# Altium schematic symbol library STM32.SchLib: 9 symbols
Pins are listed as number, name and electrical type; pins without a type are passive.

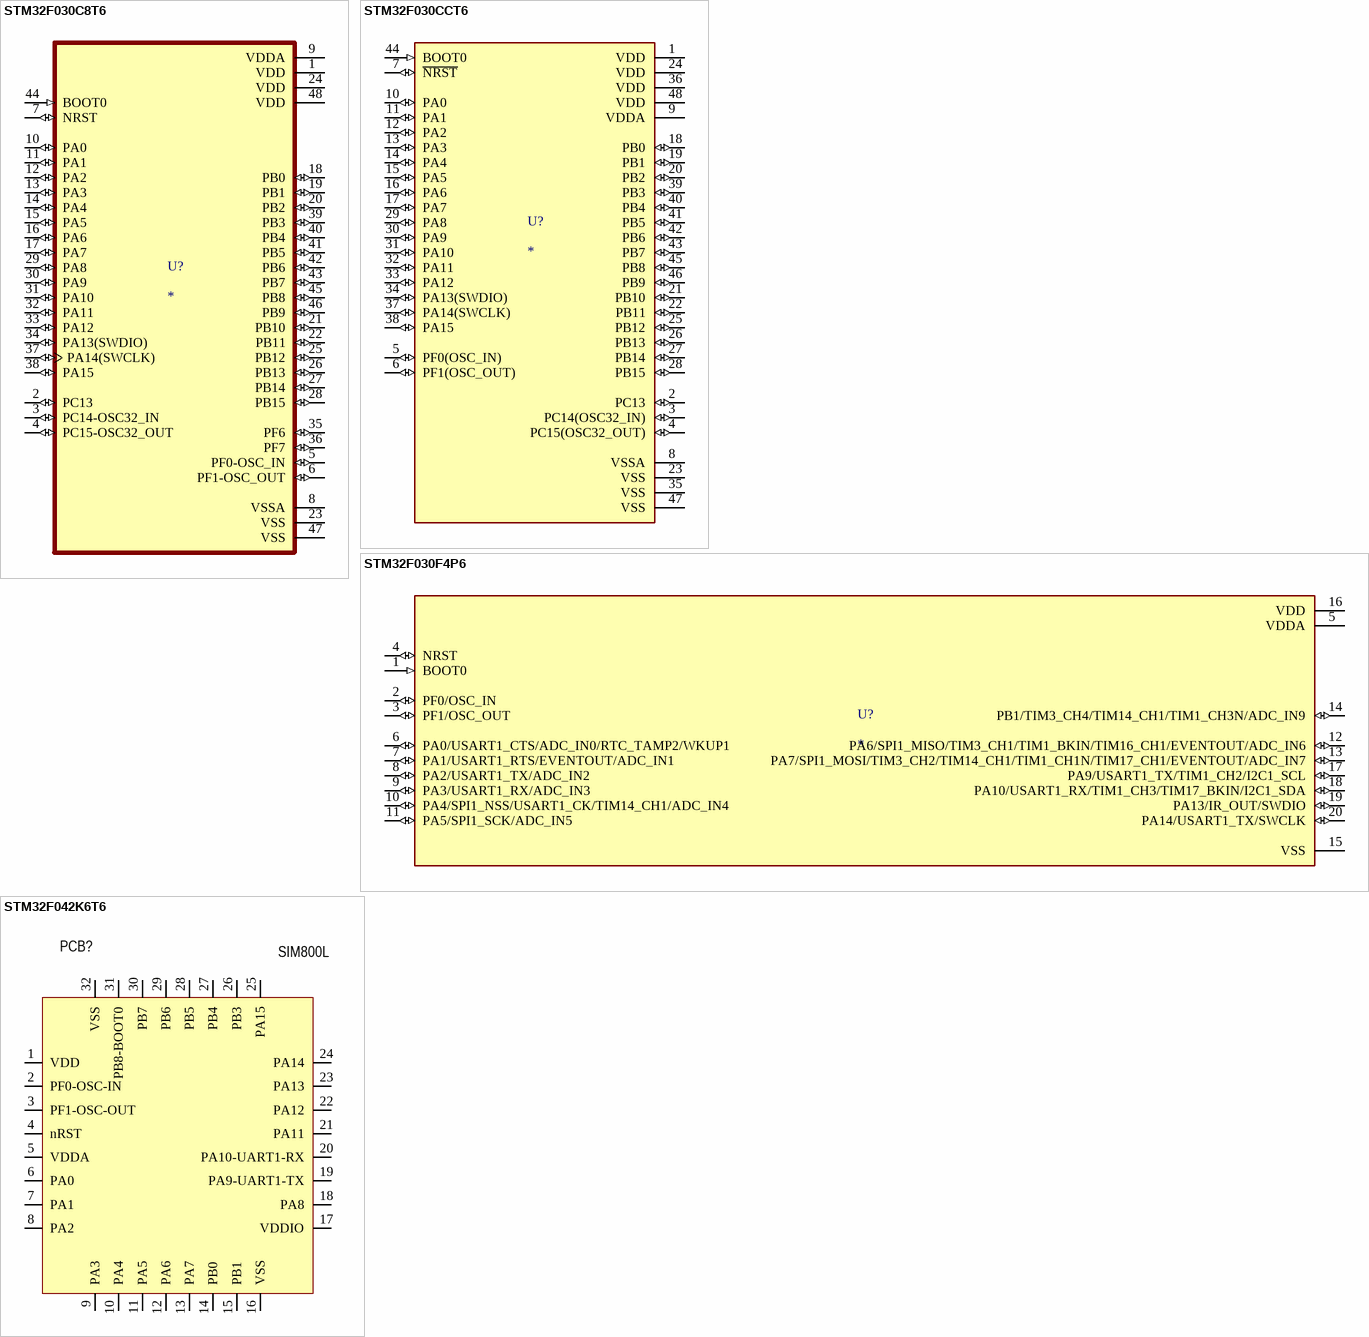
[diagram p0: symbols STM32F030C8T6 to STM32F042K6T6]

## STM32F030C8T6
designator U?
ARMÂ® CortexÂ®-M0 STM32F0 Microcontroller IC 32-Bit Single-Core 48MHz 64KB (64K x 8) FLASH 48-LQFP (7x7); MF: STMicroelectronics; MP: STM32F030C8T6; SnapEDA_Link: https://www.snapeda.com/parts/STM32F030C8T6/STMicroelectronics/view-part/?ref=snap; Package: LQFP-48 STMicroelectronics; Value: *; Check_prices: https://www.snapeda.com/parts/STM32F030C8T6/STMicroelectronics/view-part/?ref=eda
footprint QFP50P900X900X160-48N
pins: 1 VDD (power), 2 PC13 (io), 3 PC14-OSC32_IN (io), 4 PC15-OSC32_OUT (io), 5 PF0-OSC_IN (io), 6 PF1-OSC_OUT (io), 7 NRST (io), 8 VSSA (power), 9 VDDA (power), 10 PA0 (io), 11 PA1 (io), 12 PA2 (io), 13 PA3 (io), 14 PA4 (io), 15 PA5 (io), 16 PA6 (io), 17 PA7 (io), 18 PB0 (io), 19 PB1 (io), 20 PB2 (io), 21 PB10 (io), 22 PB11 (io), 23 VSS (power), 24 VDD (power), 25 PB12 (io), 26 PB13 (io), 27 PB14 (io), 28 PB15 (io), 29 PA8 (io), 30 PA9 (io), 31 PA10 (io), 32 PA11 (io), 33 PA12 (io), 34 PA13(SWDIO) (io), 35 PF6 (io), 36 PF7 (io), 37 PA14(SWCLK) (io), 38 PA15 (io), 39 PB3 (io), 40 PB4 (io), 41 PB5 (io), 42 PB6 (io), 43 PB7 (io), 44 BOOT0 (in), 45 PB8 (io), 46 PB9 (io), 47 VSS (power), 48 VDD (power)

## STM32F030CCT6
designator U?
ARMÂ® CortexÂ®-M0 STM32F0 Microcontroller IC 32-Bit Single-Core 48MHz 256KB (256K x 8) FLASH 48-LQFP (7x7); MF: STMicroelectronics; MP: STM32F030CCT6; SnapEDA_Link: https://www.snapeda.com/parts/STM32F030CCT6/STMicroelectronics/view-part/?ref=snap; Package: LQFP-48 STMicroelectronics; Value: *; Check_prices: https://www.snapeda.com/parts/STM32F030CCT6/STMicroelectronics/view-part/?ref=eda
footprint QFP50P900X900X160-48N
pins: 1 VDD (power), 2 PC13 (io), 3 PC14(OSC32_IN) (io), 4 PC15(OSC32_OUT) (io), 5 PF0(OSC_IN) (io), 6 PF1(OSC_OUT) (io), 7 ~{NRST} (io), 8 VSSA (power), 9 VDDA (power), 10 PA0 (io), 11 PA1 (io), 12 PA2 (io), 13 PA3 (io), 14 PA4 (io), 15 PA5 (io), 16 PA6 (io), 17 PA7 (io), 18 PB0 (io), 19 PB1 (io), 20 PB2 (io), 21 PB10 (io), 22 PB11 (io), 23 VSS (power), 24 VDD (power), 25 PB12 (io), 26 PB13 (io), 27 PB14 (io), 28 PB15 (io), 29 PA8 (io), 30 PA9 (io), 31 PA10 (io), 32 PA11 (io), 33 PA12 (io), 34 PA13(SWDIO) (io), 35 VSS (power), 36 VDD (power), 37 PA14(SWCLK) (io), 38 PA15 (io), 39 PB3 (io), 40 PB4 (io), 41 PB5 (io), 42 PB6 (io), 43 PB7 (io), 44 BOOT0 (in), 45 PB8 (io), 46 PB9 (io), 47 VSS (power), 48 VDD (power)

## STM32F030F4P6
designator U?
ARMÂ® CortexÂ®-M0 STM32F0 Microcontroller IC 32-Bit Single-Core 48MHz 16KB (16K x 8) FLASH; MF: STMicroelectronics; MP: STM32F030F4P6; SnapEDA_Link: https://www.snapeda.com/parts/STM32F030F4P6/STMicroelectronics/view-part/?ref=snap; Package: TSSOP-20 STMicroelectronics; Value: *; Check_prices: https://www.snapeda.com/parts/STM32F030F4P6/STMicroelectronics/view-part/?ref=eda
footprint SOP65P640X120-20N
pins: 1 BOOT0 (in), 2 PF0/OSC_IN (io), 3 PF1/OSC_OUT (io), 4 NRST (io), 5 VDDA (power), 6 PA0/USART1_CTS/ADC_IN0/RTC_TAMP2/WKUP1 (io), 7 PA1/USART1_RTS/EVENTOUT/ADC_IN1 (io), 8 PA2/USART1_TX/ADC_IN2 (io), 9 PA3/USART1_RX/ADC_IN3 (io), 10 PA4/SPI1_NSS/USART1_CK/TIM14_CH1/ADC_IN4 (io), 11 PA5/SPI1_SCK/ADC_IN5 (io), 12 PA6/SPI1_MISO/TIM3_CH1/TIM1_BKIN/TIM16_CH1/EVENTOUT/ADC_IN6 (io), 13 PA7/SPI1_MOSI/TIM3_CH2/TIM14_CH1/TIM1_CH1N/TIM17_CH1/EVENTOUT/ADC_IN7 (io), 14 PB1/TIM3_CH4/TIM14_CH1/TIM1_CH3N/ADC_IN9 (io), 15 VSS (power), 16 VDD (power), 17 PA9/USART1_TX/TIM1_CH2/I2C1_SCL (io), 18 PA10/USART1_RX/TIM1_CH3/TIM17_BKIN/I2C1_SDA (io), 19 PA13/IR_OUT/SWDIO (io), 20 PA14/USART1_TX/SWCLK (io)

## STM32F042K6T6
designator PCB?, comment SIM800L
footprint LQFP32
pins: 1 VDD, 2 PF0-OSC-IN, 3 PF1-OSC-OUT, 4 nRST, 5 VDDA, 6 PA0, 7 PA1, 8 PA2, 9 PA3, 10 PA4, 11 PA5, 12 PA6, 13 PA7, 14 PB0, 15 PB1, 16 VSS, 17 VDDIO, 18 PA8, 19 PA9-UART1-TX, 20 PA10-UART1-RX, 21 PA11, 22 PA12, 23 PA13, 24 PA14, 25 PA15, 26 PB3, 27 PB4, 28 PB5, 29 PB6, 30 PB7, 31 PB8-BOOT0, 32 VSS

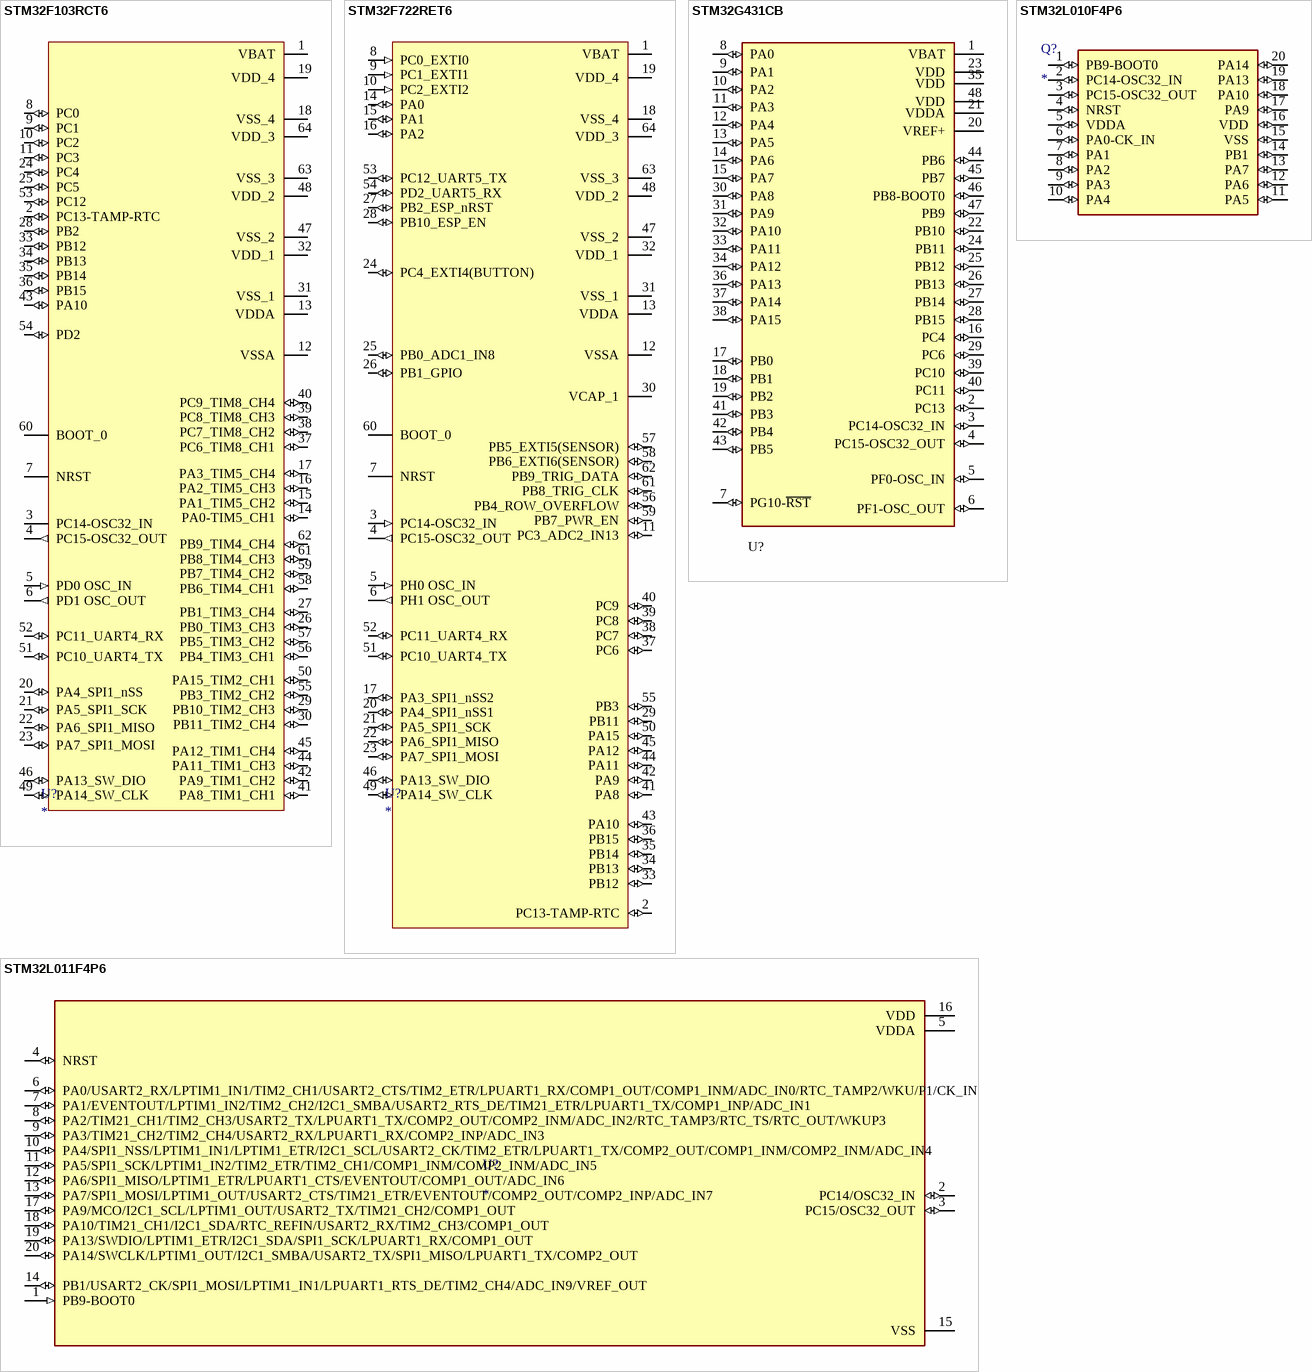
[diagram p1: symbols STM32F103RCT6 to STM32L011F4P6]

## STM32F103RCT6
designator U?
footprint LQFP64
pins: 1 VBAT (power), 2 PC13-TAMP-RTC (io), 3 PC14-OSC32_IN (hiz), 4 PC15-OSC32_OUT (out), 5 PD0 OSC_IN (in), 6 PD1 OSC_OUT (out), 7 NRST, 8 PC0 (io), 9 PC1 (io), 10 PC2 (io), 11 PC3 (io), 12 VSSA (power), 13 VDDA (power), 14 PA0-TIM5_CH1 (io), 15 PA1_TIM5_CH2 (io), 16 PA2_TIM5_CH3 (io), 17 PA3_TIM5_CH4 (io), 18 VSS_4 (power), 19 VDD_4 (power), 20 PA4_SPI1_nSS (io), 21 PA5_SPI1_SCK (io), 22 PA6_SPI1_MISO (io), 23 PA7_SPI1_MOSI (io), 24 PC4 (io), 25 PC5 (io), 26 PB0_TIM3_CH3 (io), 27 PB1_TIM3_CH4 (io), 28 PB2 (io), 29 PB10_TIM2_CH3 (io), 30 PB11_TIM2_CH4 (io), 31 VSS_1 (power), 32 VDD_1 (power), 33 PB12 (io), 34 PB13 (io), 35 PB14 (io), 36 PB15 (io), 37 PC6_TIM8_CH1 (io), 38 PC7_TIM8_CH2 (io), 39 PC8_TIM8_CH3 (io), 40 PC9_TIM8_CH4 (io), 41 PA8_TIM1_CH1 (io), 42 PA9_TIM1_CH2 (io), 43 PA10 (io), 44 PA11_TIM1_CH3 (io), 45 PA12_TIM1_CH4 (io), 46 PA13_SW_DIO (io), 47 VSS_2 (power), 48 VDD_2 (power), 49 PA14_SW_CLK (io), 50 PA15_TIM2_CH1 (io), 51 PC10_UART4_TX (io), 52 PC11_UART4_RX (io), 53 PC12 (io), 54 PD2 (io), 55 PB3_TIM2_CH2 (io), 56 PB4_TIM3_CH1 (io), 57 PB5_TIM3_CH2 (io), 58 PB6_TIM4_CH1 (io), 59 PB7_TIM4_CH2 (io), 60 BOOT_0, 61 PB8_TIM4_CH3 (io), 62 PB9_TIM4_CH4 (io), 63 VSS_3 (power), 64 VDD_3 (power)

## STM32F722RET6
designator U?
This pin detects when rows are and (from last D-trigger).
footprint LQFP64
pins: 1 VBAT (power), 2 PC13-TAMP-RTC (io), 3 PC14-OSC32_IN (in), 4 PC15-OSC32_OUT (out), 5 PH0 OSC_IN (in), 6 PH1 OSC_OUT (out), 7 NRST, 8 PC0_EXTI0 (in), 9 PC1_EXTI1 (in), 10 PC2_EXTI2 (in), 11 PC3_ADC2_IN13 (io), 12 VSSA (power), 13 VDDA (power), 14 PA0 (io), 15 PA1 (io), 16 PA2 (io), 17 PA3_SPI1_nSS2 (io), 18 VSS_4 (power), 19 VDD_4 (power), 20 PA4_SPI1_nSS1 (io) "soft select chip n1", 21 PA5_SPI1_SCK (io), 22 PA6_SPI1_MISO (io), 23 PA7_SPI1_MOSI (io), 24 PC4_EXTI4(BUTTON) (io), 25 PB0_ADC1_IN8 (io), 26 PB1_GPIO (io) "This pin drives the RND capasity", 27 PB2_ESP_nRST (io), 28 PB10_ESP_EN (io), 29 PB11 (io), 30 VCAP_1, 31 VSS_1 (power), 32 VDD_1 (power), 33 PB12 (io), 34 PB13 (io), 35 PB14 (io), 36 PB15 (io), 37 PC6 (io), 38 PC7 (io), 39 PC8 (io), 40 PC9 (io), 41 PA8 (io), 42 PA9 (io), 43 PA10 (io), 44 PA11 (io), 45 PA12 (io), 46 PA13_SW_DIO (io), 47 VSS_2 (power), 48 VDD_2 (power), 49 PA14_SW_CLK (io), 50 PA15 (io), 51 PC10_UART4_TX (io), 52 PC11_UART4_RX (io), 53 PC12_UART5_TX (io), 54 PD2_UART5_RX (io), 55 PB3 (io), 56 PB4_ROW_OVERFLOW (io), 57 PB5_EXTI5(SENSOR) (io), 58 PB6_EXTI6(SENSOR) (io), 59 PB7_PWR_EN (io), 60 BOOT_0, 61 PB8_TRIG_CLK (io), 62 PB9_TRIG_DATA (io), 63 VSS_3 (power), 64 VDD_3 (power)

## STM32G431CB
designator U?  (value not drawn)
footprint QFP50P900X900X160-48N
pins: 1 VBAT (power), 2 PC13 (io), 3 PC14-OSC32_IN (io), 4 PC15-OSC32_OUT (io), 5 PF0-OSC_IN (io), 6 PF1-OSC_OUT (io), 7 PG10-~{RST} (io), 8 PA0 (io), 9 PA1 (io), 10 PA2 (io), 11 PA3 (io), 12 PA4 (io), 13 PA5 (io), 14 PA6 (io), 15 PA7 (io), 16 PC4 (io), 17 PB0 (io), 18 PB1 (io), 19 PB2 (io), 20 VREF+ (power), 21 VDDA (power), 22 PB10 (io), 23 VDD (power), 24 PB11 (io), 25 PB12 (io), 26 PB13 (io), 27 PB14 (io), 28 PB15 (io), 29 PC6 (io), 30 PA8 (io), 31 PA9 (io), 32 PA10 (io), 33 PA11 (io), 34 PA12 (io), 35 VDD (power), 36 PA13 (io), 37 PA14 (io), 38 PA15 (io), 39 PC10 (io), 40 PC11 (io), 41 PB3 (io), 42 PB4 (io), 43 PB5 (io), 44 PB6 (io), 45 PB7 (io), 46 PB8-BOOT0 (io), 47 PB9 (io), 48 VDD (power)

## STM32L010F4P6
designator Q?
ARMÂ® CortexÂ®-M0+ STM32L0 Microcontroller IC 32-Bit Single-Core 32MHz 16KB (16K x 8) FLASH 20-TSSOP; MF: STMicroelectronics; MP: STM32L010F4P6; SnapEDA_Link: https://www.snapeda.com/parts/STM32L010F4P6/STMicroelectronics/view-part/?ref=snap; Package: TSSOP-20 STMicroelectronics; Value: *; Check_prices: https://www.snapeda.com/parts/STM32L010F4P6/STMicroelectronics/view-part/?ref=eda
footprint TSSOP20
footprint SOP65P640X120-20N
pins: 1 PB9-BOOT0 (io), 2 PC14-OSC32_IN (io), 3 PC15-OSC32_OUT (io), 4 NRST (io), 5 VDDA (io), 6 PA0-CK_IN (io), 7 PA1 (io), 8 PA2 (io), 9 PA3 (io), 10 PA4 (io), 11 PA5 (io), 12 PA6 (io), 13 PA7 (io), 14 PB1 (io), 15 VSS (io), 16 VDD (io), 17 PA9 (io), 18 PA10 (io), 19 PA13 (io), 20 PA14 (io)

## STM32L011F4P6
designator U?
ARMÂ® CortexÂ®-M0+ STM32L0 Microcontroller IC 32-Bit Single-Core 32MHz 16KB (16K x 8) FLASH 20-TSSOP; MF: STMicroelectronics; MP: STM32L011F4P6; SnapEDA_Link: https://www.snapeda.com/parts/STM32L011F4P6/STMicroelectronics/view-part/?ref=snap; Package: TSSOP-20 STMicroelectronics; Value: *; Check_prices: https://www.snapeda.com/parts/STM32L011F4P6/STMicroelectronics/view-part/?ref=eda
footprint SOP65P640X120-20N
pins: 1 PB9-BOOT0 (in), 2 PC14/OSC32_IN (io), 3 PC15/OSC32_OUT (io), 4 NRST (io), 5 VDDA (power), 6 PA0/USART2_RX/LPTIM1_IN1/TIM2_CH1/USART2_CTS/TIM2_ETR/LPUART1_RX/COMP1_OUT/COMP1_INM/ADC_IN0/RTC_TAMP2/WKU/P1/CK_IN (io), 7 PA1/EVENTOUT/LPTIM1_IN2/TIM2_CH2/I2C1_SMBA/USART2_RTS_DE/TIM21_ETR/LPUART1_TX/COMP1_INP/ADC_IN1 (io), 8 PA2/TIM21_CH1/TIM2_CH3/USART2_TX/LPUART1_TX/COMP2_OUT/COMP2_INM/ADC_IN2/RTC_TAMP3/RTC_TS/RTC_OUT/WKUP3 (io), 9 PA3/TIM21_CH2/TIM2_CH4/USART2_RX/LPUART1_RX/COMP2_INP/ADC_IN3 (io), 10 PA4/SPI1_NSS/LPTIM1_IN1/LPTIM1_ETR/I2C1_SCL/USART2_CK/TIM2_ETR/LPUART1_TX/COMP2_OUT/COMP1_INM/COMP2_INM/ADC_IN4 (io), 11 PA5/SPI1_SCK/LPTIM1_IN2/TIM2_ETR/TIM2_CH1/COMP1_INM/COMP2_INM/ADC_IN5 (io), 12 PA6/SPI1_MISO/LPTIM1_ETR/LPUART1_CTS/EVENTOUT/COMP1_OUT/ADC_IN6 (io), 13 PA7/SPI1_MOSI/LPTIM1_OUT/USART2_CTS/TIM21_ETR/EVENTOUT/COMP2_OUT/COMP2_INP/ADC_IN7 (io), 14 PB1/USART2_CK/SPI1_MOSI/LPTIM1_IN1/LPUART1_RTS_DE/TIM2_CH4/ADC_IN9/VREF_OUT (io), 15 VSS (power), 16 VDD (power), 17 PA9/MCO/I2C1_SCL/LPTIM1_OUT/USART2_TX/TIM21_CH2/COMP1_OUT (io), 18 PA10/TIM21_CH1/I2C1_SDA/RTC_REFIN/USART2_RX/TIM2_CH3/COMP1_OUT (io), 19 PA13/SWDIO/LPTIM1_ETR/I2C1_SDA/SPI1_SCK/LPUART1_RX/COMP1_OUT (io), 20 PA14/SWCLK/LPTIM1_OUT/I2C1_SMBA/USART2_TX/SPI1_MISO/LPUART1_TX/COMP2_OUT (io)